# EAGLE library part TDA8932B (library Audio-Power-amlifier V.2.0)
The TDA8932B is a high efficiency class-D amplifier with low power dissipation. The continuous time output power is 2 ´ 15 W in stereo half-bridge application (RL = 4 W) or 1 ´ 30 W in mono full-bridge application (RL = 8 W). Due to the low power dissipation the device can be used without any external heat sink when playing music. Due to the implementation of thermal foldback, even for high supply voltages and/or lower load impedances, the device continues to operate with considerable music output power without the need for an external heat sink.
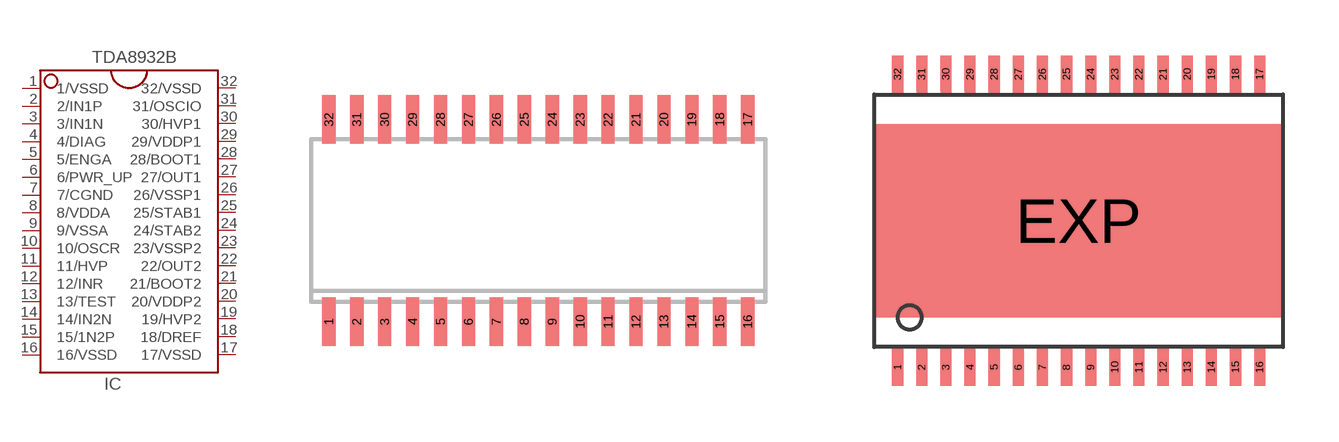
[diagram p168: symbol with the pads of SOT287-1; footprints SOT287-1, SOT549-1]

Designator prefix IC

## TDA8932BTDA8932BT  [SOT287-1]
1  1/VSSD  pwr
2  2/IN1P  in
3  3/IN1N  in
4  4/DIAG  out
5  5/ENGA  in
6  6/PWR_UP  in
7  7/CGND  pwr
8  8/VDDA  pwr
9  9/VSSA  pwr
10  10/OSCR  in
11  11/HVP
12  12/INR  in
13  13/TEST  in
14  14/IN2N  in
15  15/1N2P  in
16  16/VSSD  pwr
17  17/VSSD  pwr
18  18/DREF  in
19  19/HVP2  out
20  20/VDDP2  pwr
21  21/BOOT2
22  22/OUT2  out
23  23/VSSP2  pwr
24  24/STAB2  pwr
25  25/STAB1  pwr
26  26/VSSP1  pwr
27  27/OUT1  out
28  28/BOOT1
29  29/VDDP1  pwr
30  30/HVP1  out
31  31/OSCIO  in
32  32/VSSD  pwr

## TDA8932BTDA8932BTW  [SOT549-1]
Pads as for SOT287-1

## Footprint SOT287-1 (pad centres in mm)
SMALL OUTLINE INTEGRATED CIRCUIT wide body 7.5 mm/JEDEC MO-119AB
smd 0.6 x 2.2: 1 -9.525,-4.6; 2 -8.255,-4.6; 3 -6.985,-4.6; 4 -5.715,-4.6; 5 -4.445,-4.6; 6 -3.175,-4.6; 7 -1.905,-4.6; 8 -0.635,-4.6; 9 0.635,-4.6; 10 1.905,-4.6; 11 3.175,-4.6; 12 4.445,-4.6; 13 5.715,-4.6; 14 6.985,-4.6; 15 8.255,-4.6; 16 9.525,-4.6; 17 9.525,4.6; 18 8.255,4.6; 19 6.985,4.6; 20 5.715,4.6; 21 4.445,4.6; 22 3.175,4.6; 23 1.905,4.6; 24 0.635,4.6; 25 -0.635,4.6; 26 -1.905,4.6; 27 -3.175,4.6; 28 -4.445,4.6; 29 -5.715,4.6; 30 -6.985,4.6; 31 -8.255,4.6; 32 -9.525,4.6

## Footprint SOT549-1 (pad centres in mm)
PowerPAD(TM) PLASTIC SMALL-OUTLINE PACKAGE DAP (R-PDSO-G**)
smd 0.3 x 1: 1 -4.875,-3.95; 2 -4.225,-3.95; 3 -3.575,-3.95; 4 -2.925,-3.95; 5 -2.275,-3.95; 6 -1.625,-3.95; 7 -0.975,-3.95; 8 -0.325,-3.95; 9 0.325,-3.95; 10 0.975,-3.95; 11 1.625,-3.95; 12 2.275,-3.95; 13 2.925,-3.95; 14 3.575,-3.95; 15 4.225,-3.95; 16 4.875,-3.95; 17 4.875,3.95; 18 4.225,3.95; 19 3.575,3.95; 20 2.925,3.95; 21 2.275,3.95; 22 1.625,3.95; 23 0.975,3.95; 24 0.325,3.95; 25 -0.325,3.95; 26 -0.975,3.95; 27 -1.625,3.95; 28 -2.275,3.95; 29 -2.925,3.95; 30 -3.575,3.95; 31 -4.225,3.95; 32 -4.875,3.95
smd 11 x 5.2: EXP 0,0